# EAGLE library part SN74HC595* (library LoganSmith-Digital_IC)
8-bit shift register with 3-state output registers Datasheet <http://www.ti.com/lit/ds/symlink/sn74hc595.pdf>
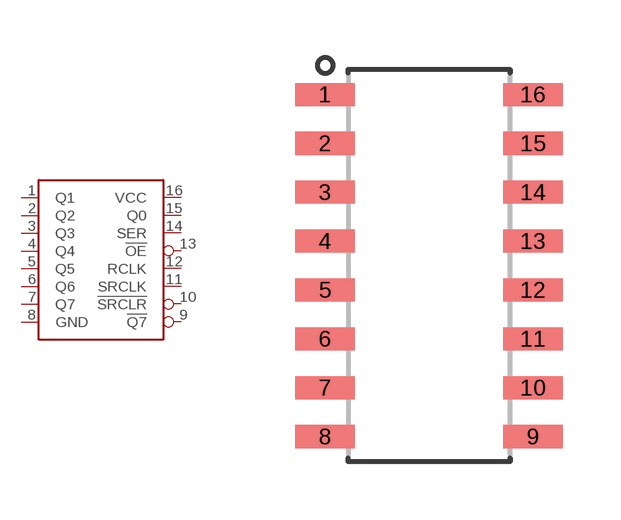
[diagram p2: symbol with the pads of 16-SOIC-NARROW; footprint 16-SOIC-NARROW]

Designator prefix U

## SN74HC595D (DESC: 8-bit shift register 3-state output; DIGIKEY_OC: 296-14857-1-ND; HEIGHT: 1.75mm; MFR: Texas Instruments; MPN: SN74HC595DR; TEMP: -40C to 85C)  [16-SOIC-NARROW]
1  Q1  out
2  Q2  out
3  Q3  out
4  Q4  out
5  Q5  out
6  Q6  out
7  Q7  out
8  GND  sup
9  !Q7  out
10  !SRCLR  in
11  SRCLK  in
12  RCLK  in
13  !OE  in
14  SER  in
15  Q0
16  VCC  pwr

## Footprint 16-SOIC-NARROW (pad centres in mm)
SOIC-16 narrow Based on footprint <https://www.silabs.com/Support%20Documents%2fTechnicalDocs%2fSi864x.pdf>
smd 1.55 x 0.6: 1 -2.7,4.445; 2 -2.7,3.175; 3 -2.7,1.905; 4 -2.7,0.635; 5 -2.7,-0.635; 6 -2.7,-1.905; 7 -2.7,-3.175; 8 -2.7,-4.445; 9 2.7,-4.445; 10 2.7,-3.175; 11 2.7,-1.905; 12 2.7,-0.635; 13 2.7,0.635; 14 2.7,1.905; 15 2.7,3.175; 16 2.7,4.445